# Altium footprint library Connecteurs.PcbLib: 6 footprints
Each footprint in its own frame and in the unit in brackets; x right, y up, seen from the top. Pads: shape width x height; smd on the part's side, far side on the other; paste and mask are expansions set on the pad; w line width, h text height; cw(c..) or ccw(c..) is an arc to the next point about the centre after c.
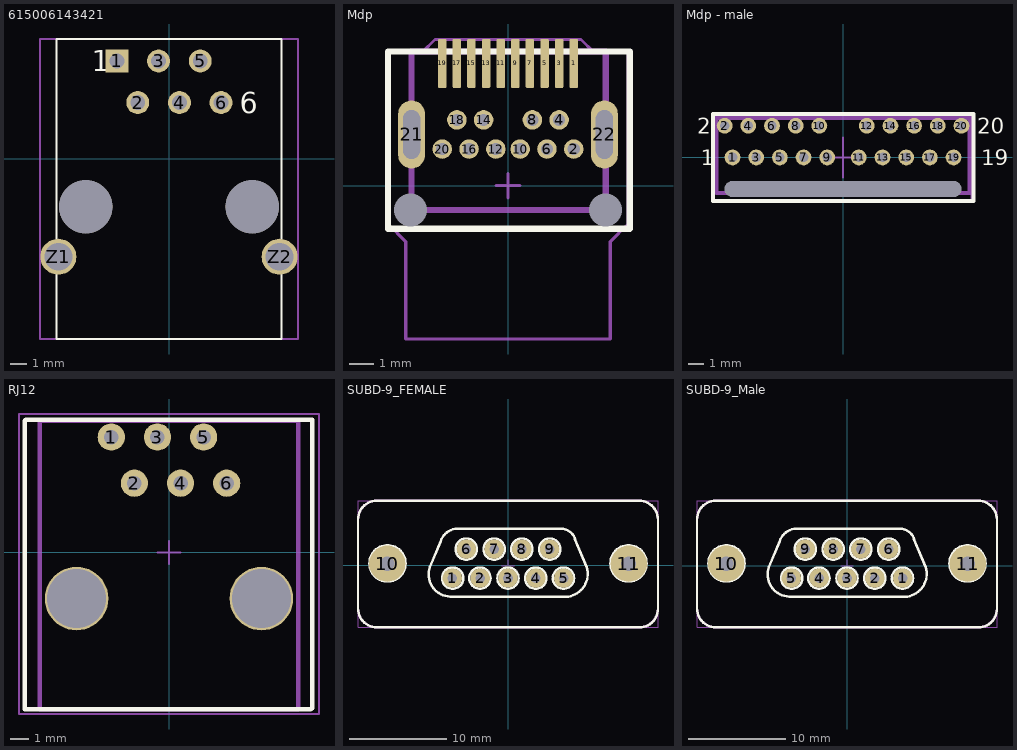
[diagram p0: the footprints below, top view; thin cyan lines are the x and y axes]

## 615006143421 [mm] "Horizontal Half-shielded 1x1 TH    6P6C Tab Down"
height 13.07
pads (10):
  rect 1.4x1.4 hole 0.9: 1(-3.175,5.97)
  round 1.4 hole 0.9: 2(-1.905,3.43) 3(-0.635,5.97) 4(0.635,3.43) 5(1.905,5.97) 6(3.175,3.43)
  round 2.2 hole 1.7: Z1(-6.75,-5.97) Z2(6.75,-5.97)
  round 3.25 hole 3.25 unplated: ""(-5.08,-2.92) ""(5.08,-2.92)
Top Overlay:
  lines w0.127: -6.85,-10.99 6.85,-10.99 6.85,7.31 -6.85,7.31 -6.85,-10.99
  text "1" at -4.699,5.334 h1.27
  text "6" at 4.318,2.794 h1.27
Mechanical 15:
  lines w0.127: -7.875,-10.99 7.875,-10.99 7.875,7.31 -7.875,7.31 -7.875,-10.99
3D body "615006143421.stp": height 13.08, standoff -4.12, extent -7.875,-10.99 7.875,7.31

## Mdp [mm]
pads (24):
  round 0 hole 1.35 unplated: 0(-4,-1) 0(4,-1)
  rrect30% 0.35x2.01 smd: 1(2.7,5.015) 3(2.1,5.015) 5(1.5,5.015) 7(0.9,5.015) 9(0.3,5.015) 11(-0.3,5.015) 13(-0.9,5.015) 15(-1.5,5.015) 17(-2.1,5.015) 19(-2.7,5.015)
  round 0.8 hole 0.5: 2(2.7,1.5) 4(2.1,2.7) 6(1.6,1.5) 8(1,2.7) 10(0.5,1.5) 12(-0.5,1.5) 14(-1,2.7) 16(-1.6,1.5) 18(-2.1,2.7) 20(-2.7,1.5)
  oval 1.1x2.8 hole 0.7 slot 2 at 90 deg unplated: 21(-3.96,2.1) 22(3.96,2.1)
Top Overlay:
  lines w0.254: -4.925,-1.773 5,-1.773 5,5.51 -4.925,5.51 -4.925,-1.773
Mechanical 13:
  lines w0.254: -3.967,-1.004 -3.967,5.51 4.017,5.51 4.017,-1.004 -3.967,-1.004
Mechanical 15:
  lines w0.127: -0.5,0 0.5,0 ; 0,-0.5 0,0.5 ; -4.925,-1.575 -4.2,-2.3 -4.2,-6.3 4.2,-6.3 4.2,-2.3 4.925,-1.575 4.925,5.5 3.5,5.5 3,6 -3,6 -3.5,5.5 -4.925,5.5 -4.925,-1.575

## Mdp - male [mm] "C'est une empreinte voulue pour souder les cable.Mini-display port"
pads (21):
  round 0 hole 1 slot 15 at 0 deg unplated: 0(0,-2)
  round 1 hole 0.6: 1(-7,0) 2(-7.5,2) 3(-5.5,0) 4(-6,2) 5(-4,0) 6(-4.5,2) 7(-2.5,0) 8(-3,2) 9(-1,0) 10(-1.5,2) 11(1,0) 12(1.5,2) 13(2.5,0) 14(3,2) 15(4,0) 16(4.5,2) 17(5.5,0) 18(6,2) 19(7,0) 20(7.5,2)
Top Overlay:
  lines w0.254: -8.25,-2.75 8.25,-2.75 8.25,2.75 -8.25,2.75 -8.25,-2.75
  text "1" at -9,-0.5 h1
  text "20" at 8.5,1.5 h1
  text "2" at -9.25,1.5 h1
  text "19" at 8.75,-0.5 h1
Mechanical 13:
  lines w0.254: -8,-2.25 -8,2.512 8,2.512 8,-2.25 -8,-2.25
Mechanical 15:
  lines w0.127: -1.27,0 1.27,0 ; 0,-1.27 0,1.27 ; -8.172,-2.75 -8.172,2.613 8.147,2.613 8.147,-2.75 -8.172,-2.75

## RJ12 [mm]
pads (8):
  round 1.5 hole 0.8: 1(-3.175,6.35) 2(-1.905,3.81) 3(-0.635,6.35) 4(0.635,3.81) 5(1.905,6.35) 6(3.175,3.81)
  round 3.5 hole 3.25: ""(-5.085,-2.54) ""(5.085,-2.54)
Top Overlay:
  lines w0.254: -7.938,-8.636 7.81,-8.636 7.874,-8.572 7.874,7.302 -7.874,7.302 -7.938,7.239 -7.938,-8.636
Mechanical 13:
  lines w0.254: -7.112,-8.636 6.096,-8.636 7.112,-8.636 7.112,-6.35 7.112,5.08 7.112,7.239 -7.112,7.239 -7.112,5.08 -7.112,-6.477 -7.112,-8.636
  text ".Designator" at -5.842,1.143 h2
Mechanical 15:
  lines w0.127: -0.635,0 0.635,0 ; 0,-0.635 0,0.635 ; -8.255,-8.89 -8.255,7.62 8.255,7.62 8.255,-8.89 -8.255,-8.89
3D body "User Library-FCI 90512-001LF.step": height 15.02, standoff -3.92, extent -7.875,-8.57 7.875,7.3

## SUBD-9_FEMALE [mm]
pads (11):
  round 2 hole 1: 1(-5.788,-1.346) 2(-2.913,-1.346) 3(-0.038,-1.346) 4(2.837,-1.346) 5(5.712,-1.346) 6(-4.338,1.649) 7(-1.463,1.649) 8(1.387,1.649) 9(4.262,1.649)
  round 3.75 hole 1.5: 10(-12.513,0.149) 11(12.437,0.149)
Top Overlay:
  circle w0.254: c-5.753,-1.346 r1.1
  circle w0.254: c-4.351,1.651 r1.1
  circle w0.254: c-2.938,-1.346 r1.1
  circle w0.254: c-1.468,1.651 r1.1
  circle w0.254: c-0.038,-1.346 r1.1
  circle w0.254: c1.389,1.651 r1.1
  circle w0.254: c2.824,-1.346 r1.1
  circle w0.254: c4.272,1.651 r1.1
  circle w0.254: c5.693,-1.346 r1.1
  circle w0.254: c-12.484,0.178 r1.875
  circle w0.254: c12.408,0.178 r1.875
  lines w0.254: -8.1,-0.181 ccw(c-5.943,-0.964) -5.753,-3.251 5.677,-3.251 ; -8.1,-0.181 -6.992,2.454 cw(c-5.215,1.913) -5.5,3.748 ; -5.499,3.734 5.677,3.734 ; 5.423,3.755 cw(c5.423,2.21) 6.947,2.464 6.871,2.692 8.085,-0.219 cw(c5.846,-0.923) 5.673,-3.264 ; -15.532,-4.48 ccw(c-13.586,-4.48) -13.586,-6.426 13.551,-6.426 ccw(c13.551,-4.521) 15.456,-4.521 15.456,4.69 ccw(c13.491,4.69) 13.491,6.655 -0.292,6.655 -13.586,6.655 ccw(c-13.586,4.709) -15.532,4.709 -15.532,-4.48
Mechanical 13:
  lines w0.254: -15.532,-4.48 ccw(c-13.586,-4.48) -13.586,-6.426 13.51,-6.426 ccw(c13.51,-4.48) 15.456,-4.48 15.456,4.709 ccw(c13.51,4.709) 13.51,6.655 -13.586,6.655 ccw(c-13.586,4.709) -15.532,4.709 -15.532,-4.48
Mechanical 15:
  lines w0.127: -0.673,-0.076 0.597,-0.076 ; -0.038,-0.711 -0.038,0.559 ; -15.532,-6.426 -15.532,6.655 15.456,6.655 15.456,-6.426 -15.532,-6.426
Mechanical 17:
  text ".Designator" at -5.372,-4.394 h2
3D body "SUBD9_Female.step": height 11, standoff -5, extent -15.127,-5.891 14.873,6.109

## SUBD-9_Male [mm]
pads (11):
  round 2 hole 1: 1(5.75,-1.27) 2(2.875,-1.27) 3(0,-1.27) 4(-2.875,-1.27) 5(-5.75,-1.27) 6(4.3,1.725) 7(1.425,1.725) 8(-1.425,1.725) 9(-4.3,1.725)
  round 3.75 hole 1.5: 10(-12.475,0.225) 11(12.475,0.225)
Top Overlay:
  circle w0.254: c-5.715,-1.27 r1.1
  circle w0.254: c-4.313,1.727 r1.1
  circle w0.254: c-2.9,-1.27 r1.1
  circle w0.254: c-1.43,1.727 r1.1
  circle w0.254: c0,-1.27 r1.1
  circle w0.254: c1.427,1.727 r1.1
  circle w0.254: c2.862,-1.27 r1.1
  circle w0.254: c4.31,1.727 r1.1
  circle w0.254: c5.731,-1.27 r1.1
  circle w0.254: c-12.446,0.254 r1.875
  circle w0.254: c12.446,0.254 r1.875
  lines w0.254: -8.062,-0.105 ccw(c-5.905,-0.888) -5.715,-3.175 5.715,-3.175 ; -8.062,-0.105 -6.953,2.53 cw(c-5.177,1.989) -5.462,3.825 ; -5.461,3.81 5.715,3.81 ; 5.461,3.831 cw(c5.461,2.286) 6.985,2.54 6.909,2.769 8.124,-0.143 cw(c5.884,-0.846) 5.711,-3.188 ; -15.494,-4.404 ccw(c-13.548,-4.404) -13.548,-6.35 13.589,-6.35 ccw(c13.589,-4.445) 15.494,-4.445 15.494,4.766 ccw(c13.529,4.766) 13.529,6.731 -0.254,6.731 -13.548,6.731 ccw(c-13.548,4.785) -15.494,4.785 -15.494,-4.404
Mechanical 13:
  lines w0.254: -15.494,-4.404 ccw(c-13.548,-4.404) -13.548,-6.35 13.548,-6.35 ccw(c13.548,-4.404) 15.494,-4.404 15.494,4.785 ccw(c13.548,4.785) 13.548,6.731 -13.548,6.731 ccw(c-13.548,4.785) -15.494,4.785 -15.494,-4.404
Mechanical 15:
  lines w0.127: -0.635,0 0.635,0 ; 0,-0.635 0,0.635 ; -15.494,-6.35 -15.494,6.731 15.494,6.731 15.494,-6.35 -15.494,-6.35
Mechanical 17:
  text ".Designator" at -5.334,-4.318 h2
3D body "SW3dPS-sub-d 9 contacts à souder.STEP": height 9.5, standoff 0, extent -15.475,-6.275 15.525,6.725
3D body: height 0.5, standoff -3.5, extent -6.246,-1.769 -5.25,-0.771
3D body: height 0.5, standoff -3.5, extent -3.371,-1.769 -2.375,-0.771
3D body: height 0.5, standoff -3.5, extent -0.496,-1.769 0.5,-0.771
3D body: height 0.5, standoff -3.5, extent -4.796,1.226 -3.8,2.224
3D body: height 0.5, standoff -3.5, extent -1.921,1.226 -0.925,2.224
3D body: height 0.5, standoff -3.5, extent 0.929,1.226 1.925,2.224
3D body: height 0.5, standoff -3.5, extent 3.804,1.226 4.8,2.224
3D body: height 0.5, standoff -3.5, extent 2.379,-1.769 3.375,-0.771
3D body: height 0.5, standoff -3.5, extent 5.254,-1.769 6.25,-0.771